# Altium footprint library DF14-2P-1.25H(55).PcbLib: 1 footprints
Each footprint in its own frame and in the unit in brackets; x right, y up, seen from the top. Pads: shape width x height; smd on the part's side, far side on the other; paste and mask are expansions set on the pad; w line width, h text height; cw(c..) or ccw(c..) is an arc to the next point about the centre after c.
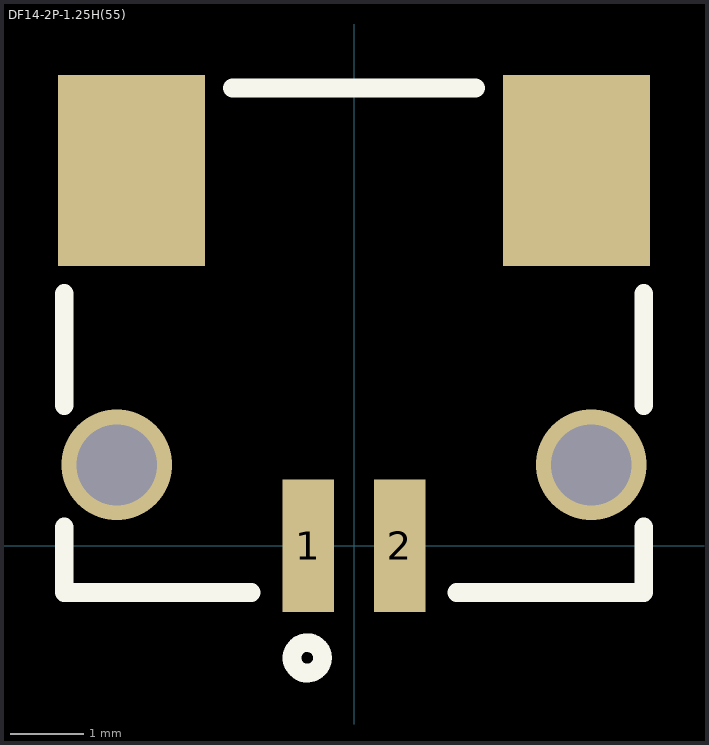
[diagram p0: the footprint, top view; thin cyan lines are the x and y axes]

## DF14-2P-1.25H(55) [mm]
height 2.5
pads (4):
  rect 0.7x1.8 smd: 1(-0.625,0) 2(0.625,0)
  rect 2x2.6 smd: ""(-3.025,5.1) ""(3.025,5.1)
via -3.225,1.1 diameter 1.5 hole 1.1
via 3.225,1.1 diameter 1.5 hole 1.1
Top Overlay:
  circle w0.254: c-0.635,-1.524 r0.207
  lines w0.254: -3.937,0.254 -3.937,-0.635 -1.397,-0.635 ; -3.937,1.905 -3.937,3.429 ; -1.651,6.223 -0.826,6.223 0.826,6.223 1.651,6.223 ; 1.397,-0.635 3.937,-0.635 3.937,0.254 ; 3.937,1.905 3.937,3.429
3D body "DF14A-2P-1.25H v1.step": height 2.5, standoff 0, extent -3.725,-0.475 3.725,6.225